# Altium schematic symbol library Node SCH Parts.SchLib: 1 symbol
Pins are listed as number, name and electrical type; pins without a type are passive.

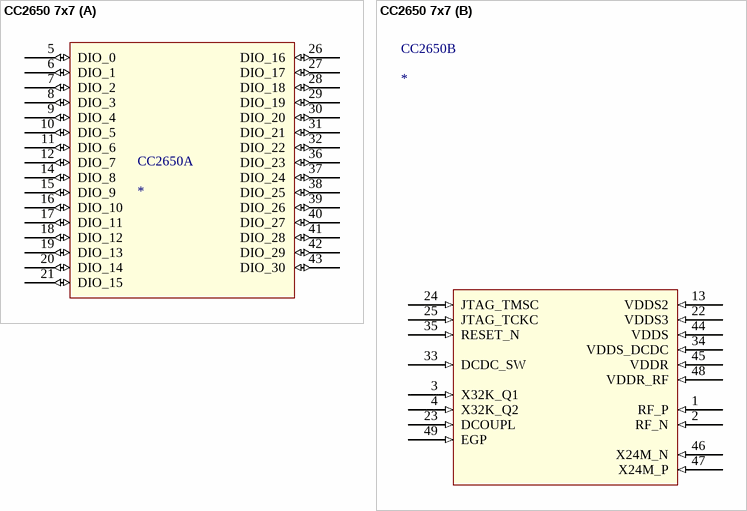
[diagram p0: symbol CC2650 7x7]

## CC2650 7x7
designator CC2650
CC2650 Multiprotocol 2.5GHz RF Tranciever, RGZ package
part A pins: 5 DIO_0 (io), 6 DIO_1 (io), 7 DIO_2 (io), 8 DIO_3 (io), 9 DIO_4 (io), 10 DIO_5 (io), 11 DIO_6 (io), 12 DIO_7 (io), 14 DIO_8 (io), 15 DIO_9 (io), 16 DIO_10 (io), 17 DIO_11 (io), 18 DIO_12 (io), 19 DIO_13 (io), 20 DIO_14 (io), 21 DIO_15 (io), 26 DIO_16 (io), 27 DIO_17 (io), 28 DIO_18 (io), 29 DIO_19 (io), 30 DIO_20 (io), 31 DIO_21 (io), 32 DIO_22 (io), 36 DIO_23 (io), 37 DIO_24 (io), 38 DIO_25 (io), 39 DIO_26 (io), 40 DIO_27 (io), 41 DIO_28 (io), 42 DIO_29 (io), 43 DIO_30 (io)
part B pins: 1 RF_P (in), 2 RF_N (in), 3 X32K_Q1 (in), 4 X32K_Q2 (in), 13 VDDS2 (in), 22 VDDS3 (in), 23 DCOUPL (in), 24 JTAG_TMSC (in), 25 JTAG_TCKC (in), 33 DCDC_SW (in), 34 VDDS_DCDC (in), 35 RESET_N (in), 44 VDDS (in), 45 VDDR (in), 46 X24M_N (in), 47 X24M_P (in), 48 VDDR_RF (in), 49 EGP (in)